# EAGLE library part 74HC123 (library Semiconductors > Integrated Circuits - ICs > Logic ICs > Logic Gates)
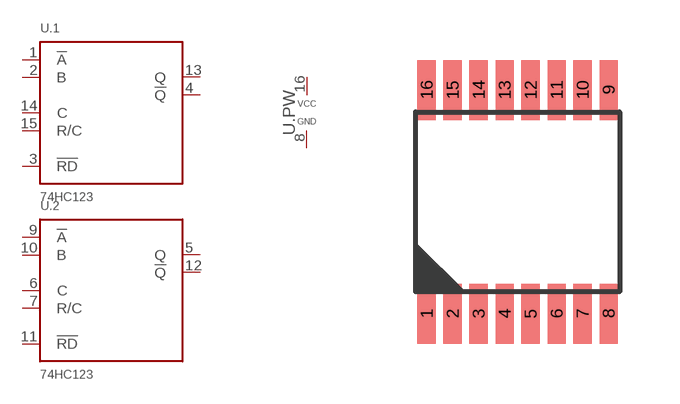
[diagram p1: symbol with the pads of TSSOP-16; footprint TSSOP-16]

Designator prefix U; gates .1=74HC123 .2=74HC123 .PW=PWR

## 74HC123  [TSSOP-16]
1  .1:!A
2  .1:B
3  .1:!RD
4  .1:!Q
5  .2:Q
6  .2:C
7  .2:R/C
8  .PW:GND
9  .2:!A
10  .2:B
11  .2:!RD
12  .2:!Q
13  .1:Q
14  .1:C
15  .1:R/C
16  .PW:VCC

## Footprint TSSOP-16 (pad centres in mm)
smd 0.45 x 1.5: 1 -2.275,-2.8; 2 -1.625,-2.8; 3 -0.975,-2.8; 4 -0.325,-2.8; 5 0.325,-2.8; 6 0.975,-2.8; 7 1.625,-2.8; 8 2.275,-2.8; 9 2.275,2.8; 10 1.625,2.8; 11 0.975,2.8; 12 0.325,2.796; 13 -0.325,2.796; 14 -0.975,2.8; 15 -1.625,2.8; 16 -2.275,2.8